# EAGLE library part SIM800C (library GSM-SIMCOM)
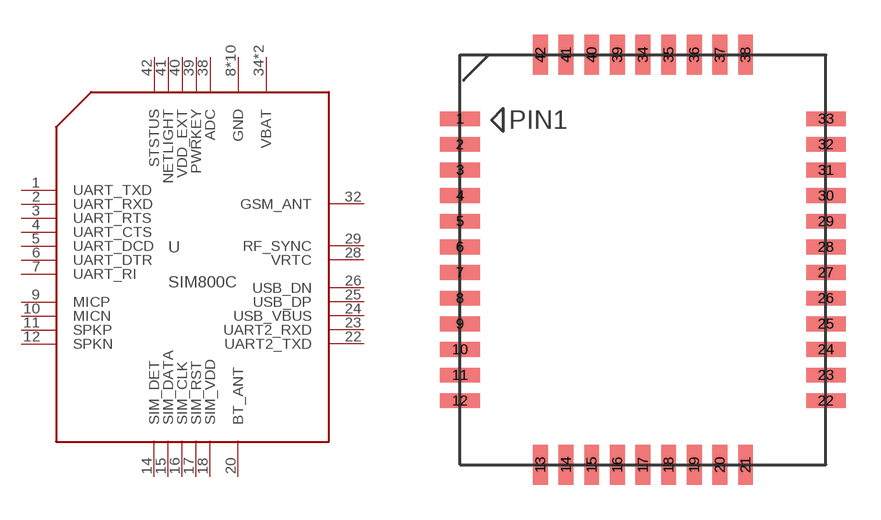
[diagram p1: symbol with the pads of SIM800C; footprint SIM800C]

Designator prefix U

## SIM800C  [SIM800C]
1  UART_TXD
2  UART_RXD
3  UART_RTS
4  UART_CTS
5  UART_DCD
6  UART_DTR
7  UART_RI
8  GND
9  MICP
10  MICN
11  SPKP
12  SPKN
13  GND
14  SIM_DET
15  SIM_DATA
16  SIM_CLK
17  SIM_RST
18  SIM_VDD
19  GND
20  BT_ANT
21  GND
22  UART2_TXD
23  UART2_RXD
24  USB_VBUS
25  USB_DP
26  USB_DN
27  GND
28  VRTC
29  RF_SYNC
30  GND
31  GND
32  GSM_ANT
33  GND
34  VBAT
35  VBAT
36  GND
37  GND
38  ADC
39  PWRKEY
40  VDD_EXT
41  NETLIGHT
42  STSTUS

## Footprint SIM800C (pad centres in mm)
smd 1.7 x 0.635: 1 -7.85,6.05; 2 -7.85,4.95; 3 -7.85,3.85; 4 -7.85,2.75; 5 -7.85,1.65; 6 -7.85,0.55; 7 -7.85,-0.55; 8 -7.85,-1.65; 9 -7.85,-2.75; 10 -7.85,-3.85; 11 -7.85,-4.95; 12 -7.85,-6.05; 22 7.85,-6.05; 23 7.85,-4.95; 24 7.85,-3.85; 25 7.85,-2.75; 26 7.85,-1.65; 27 7.85,-0.55; 28 7.85,0.55; 29 7.85,1.65; 30 7.85,2.75; 31 7.85,3.85; 32 7.85,4.95; 33 7.85,6.05
smd 0.635 x 1.7: 13 -4.4,-8.8; 14 -3.3,-8.8; 15 -2.2,-8.8; 16 -1.1,-8.8; 17 0,-8.8; 18 1.1,-8.8; 19 2.2,-8.8; 20 3.3,-8.8; 21 4.4,-8.8; 34 0,8.8; 35 1.1,8.8; 36 2.2,8.8; 37 3.3,8.8; 38 4.4,8.8; 39 -1.1,8.8; 40 -2.2,8.8; 41 -3.3,8.8; 42 -4.4,8.8